# Altium schematic symbol library AltiumLibraries.SchLib: 537 symbols (part 1 of 5)
Pins are listed as number, name and electrical type; pins without a type are passive.

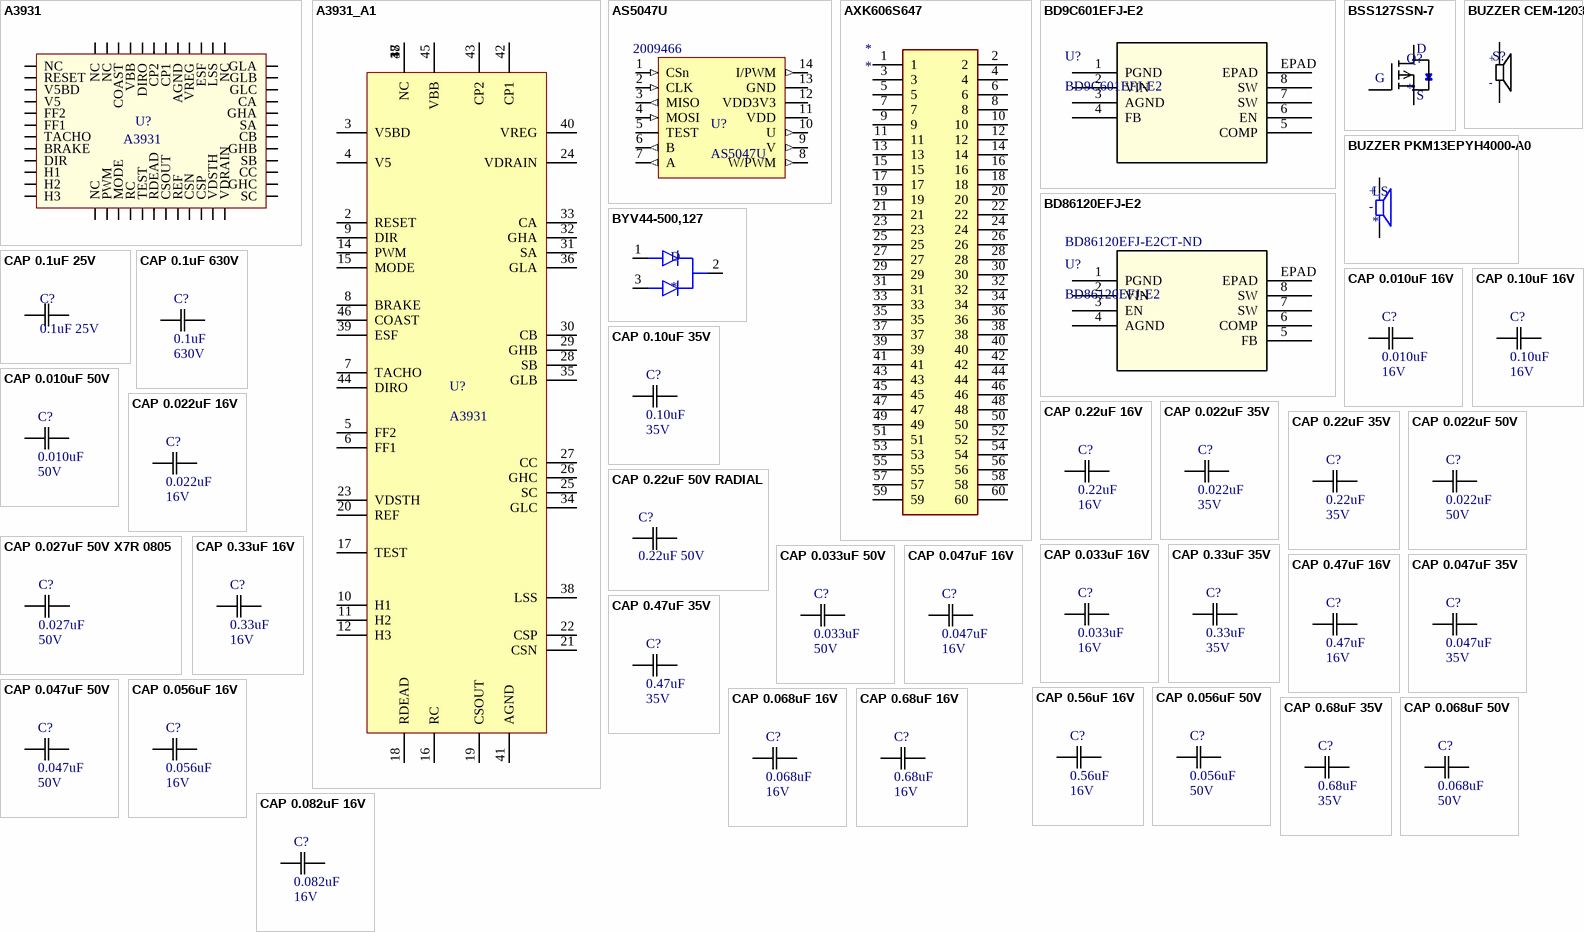
[diagram p0: symbols A3931 to CAP 0.082uF 16V]

## A3931
designator U?
IC MOTOR DRIVER 5.5V-50V 48LQFP; MF: Allegro MicroSystems; MP: A3931KJPTR-T; Rating: 5.5V ~ 50V; Digikey: 620-1290-1-ND; Price: 8.948 CAD; Digikey Link: https://www.digikey.com/product-detail/en/allegro-microsystems-llc/A3931KJPTR-T/620-1290-1-ND/2000021; Supplier 1: Digi-Key; Supplier Part Number 1: 620-1290-1-ND
footprint 48-LQFP-EP (7x7)
pins: 1 NC, 2 RESET, 3 V5BD, 4 V5, 5 FF2, 6 FF1, 7 TACHO, 8 BRAKE, 9 DIR, 10 H1, 11 H2, 12 H3, 13 NC, 14 PWM, 15 MODE, 16 RC, 17 TEST, 18 RDEAD, 19 CSOUT, 20 REF, 21 CSN, 22 CSP, 23 VDSTH, 24 VDRAIN, 25 SC, 26 GHC, 27 CC, 28 SB, 29 GHB, 30 CB, 31 SA, 32 GHA, 33 CA, 34 GLC, 35 GLB, 36 GLA, 37 NC, 38 LSS, 39 ESF, 40 VREG, 41 AGND, 42 CP1, 43 CP2, 44 DIRO, 45 VBB, 46 COAST, 47 NC, 48 NC

## A3931_A1
designator U?, comment A3931
IC MOTOR DRIVER 5.5V-50V 48LQFP - Alternative Symbol; Digikey: 620-1290-1-ND; Digikey Link: https://www.digikey.ca/product-detail/en/allegro-microsystems/A3931KJPTR-T/620-1290-1-ND/2000021; Supplier 1: Digi-Key; Supplier Part Number 1: 620-1290-1-ND
footprint 48-LQFP-EP (7x7)
pins: 1 NC, 2 RESET, 3 V5BD, 4 V5, 5 FF2, 6 FF1, 7 TACHO, 8 BRAKE, 9 DIR, 10 H1, 11 H2, 12 H3, 13, 14 PWM, 15 MODE, 16 RC, 17 TEST, 18 RDEAD, 19 CSOUT, 20 REF, 21 CSN, 22 CSP, 23 VDSTH, 24 VDRAIN, 25 SC, 26 GHC, 27 CC, 28 SB, 29 GHB, 30 CB, 31 SA, 32 GHA, 33 CA, 34 GLC, 35 GLB, 36 GLA, 37 NC, 38 LSS, 39 ESF, 40 VREG, 41 AGND, 42 CP1, 43 CP2, 44 DIRO, 45 VBB, 46 COAST, 47 NC, 48 NC

## AS5047U
designator U?  Supplier Part Number 1: 2009466
14-Bit On-Axis Magnetic Rotary Position Sensor with Up to 14-Bit Binary Incremental Pulse Count; Supplier 1: RSComponents
footprint AS5047U
pins: 1 CSn (in), 2 CLK (in), 3 MISO (out), 4 MOSI (in), 5 TEST, 6 B (out), 7 A (out), 8 W/PWM (out), 9 V (out), 10 U (out), 11 VDD, 12 VDD3V3, 13 GND, 14 I/PWM (out)

## AXK606S647
designator *
RS14100_WIFI_CONN
footprint AXK606S647 (RS14100_WIFI_CONN)
pins: 1, 2, 3, 4, 5, 6, 7, 8, 9, 10, 11, 12, 13, 14, 15, 16, 17, 18, 19, 20, 21, 22, 23, 24, 25, 26, 27, 28, 29, 30, 31, 32, 33, 34, 35, 36, 37, 38, 39, 40, 41, 42, 43, 44, 45, 46, 47, 48, 49, 50, 51, 52, 53, 54, 55, 56, 57, 58, 59, 60

## BD9C601EFJ-E2
designator U?
IC REG BUCK ADJ 6A 8HTSOP-J; Mfr_Name: ROHM Semiconductor; Copyright: Copyright (C) 2021 Ultra Librarian. All rights reserved.; Manufacturer_Part_Number: BD9C601EFJ-E2; Digi-Key_Part_Number_1: 846-1115-2-ND; Digi-Key_Part_Number_2: 846-1115-1-ND; Digi-Key_Part_Number_3: 846-1115-6-ND; RefDes: RefDes; Type: DEV; Supplier 1: Digi-Key; Supplier 2: Newark; Supplier 3: Avnet; Supplier 4: Farnell; Supplier Part Number 1: 846-1115-1-ND; Supplier Part Number 2: 53X2986; Supplier Part Number 3: BD9C601EFJ-E2; Supplier Part Number 4: 2420849
footprint HTSOP-J8_ROM-BD9C601EFJ-E2
pins: 1 PGND, 2 VIN, 3 AGND, 4 FB, 5 COMP, 6 EN, 7 SW, 8 SW, EPAD

## BD86120EFJ-E2
designator U?  Supplier Part Number 1: BD86120EFJ-E2CT-ND
IC REG BUCK ADJ 5A 8HTSOP-J; Mfr_Name: ROHM Semiconductor; Copyright: Copyright (C) 2021 Ultra Librarian. All rights reserved.; Manufacturer_Part_Number: BD86120EFJ-E2; Digi-Key_Part_Number_1: BD86120EFJ-E2TR-ND; Digi-Key_Part_Number_2: BD86120EFJ-E2CT-ND; Digi-Key_Part_Number_3: BD86120EFJ-E2DKR-ND; Digi-Key_Part_Number_4: BD86120EFJ-E2TR-NDL; RefDes: RefDes; Type: DEV; Supplier 1: Digi-Key
footprint HTSOP-J8_ROM
footprint HTSOP-J8_ROM-L
footprint HTSOP-J8_ROM-M
pins: 1 PGND, 2 VIN, 3 EN, 4 AGND, 5 FB, 6 COMP, 7 SW, 8 SW, EPAD

## BSS127SSN-7
designator Q?
Small Signal N-Ch, 600Vds; MFG: Diodes Incorporated; Supplier: Digikey; Supplier PN: BSS127SSN-7DICT-ND
footprint SOT95P245X89-3M (SOT23, 3-Leads, Body 2.90x2.45mm, Pitch 0.95mm, IPC Low Density)
pins: D, G, S

## BUZZER CEM-1203
designator S?  (value not drawn)
AUDIO MAGNETIC XDCR 3-5V TH; Current Rating: 35 mA @ 3.5 V; Frequency: 2.048 kHz @ 3.5 V; Decibels: 85 dB @ 3.5 V; ComponentLink1Description: Digikey Link; ComponentLink1URL: https://www.digikey.ca/products/en?keywords=CEM%201203%20buzzer; ComponentLink2Description: SnapEDA Link; ComponentLink2URL: https://www.snapeda.com/parts/CEM-1203%2842%29/CUI%20Devices/view-part/?ref=search&t=CEM%201203; Part Name: CEM-1203; Rated Voltage: 3-5 V; Supplier 1: Digi-Key; Supplier Part Number 1: 102-1153-ND
footprint CEM-1203 (2048 Hz Speaker)
pins: N, P
text: +; -

## BUZZER PKM13EPYH4000-A0
designator LS
Buzzers Transducer, Externally Driven Piezo 1.5V 4kHz 70dB @ 1.5V, 10cm Through Hole PC Pins; MF: Murata; MP: PKM13EPYH4000-A0; Arrow_Electronics-Purchase-URL: https://snapeda.com/shop?store=Arrow+Electronics&id=4970420; Value: *; SnapEDA_Link: https://www.snapeda.com/parts/PKM13EPYH4000-A0/Murata/view-part/4970420/?ref=snap; Package: Radial-2 Murata; Digikey Part: 490-4698-1-ND
footprint BUZZER PKM13EPYH4000-A0
pins: N, P
text: +; -

## BYV44-500,127
designator D
DIODE ARRAY GP 500V 30A TO220AB; MP: BYV44-500,127; MF: WeEn Semiconductors; Package: TO-220-3; Supplier 1: Digi-Key; Supplier Part Number 1: BYV44-500,127-ND
footprint to-220-3
pins: 1 ANODE1, 2 COMMON_CATHODE, 3 ANODE2

## CAP 0.1uF 25V
designator C?, comment 0.1uF 25V
CAP CER 0.1UF 25V X7R 0805/0603; Tolerance: 10%; Value: 0.1uF; Temperature Coefficient: X7R; Rating: 25V; Operating Temperature: -55°C ~ 125°C
footprint 0805
footprint 0603 (Chip Resistor, 2-Leads, Body 1.60x0.80mm, IPC High Density)
pins: 1 C1, 2 C2

## CAP 0.1uF 630V
designator C?, comment Rating: 630V  (hidden comment: 0.1uF)
CAP CER 0.1uF 630V X7R 1210; Tolerance: 10%; Package: 1210; Temperature Coefficient: X7R; Operating Temperature: -55°C ~ 125°C; Value: 0.1uF
footprint 1210
pins: 1 C1, 2 C2

## CAP 0.010uF 16V
designator C?, comment Rating: 16V  (hidden comment: 0.010uF)
CAP CER 0.010UF 16V X5R 0603/0805; Tolerance: 10%; Package: 0603/0805; Temperature Coefficient: X5R; Operating Temperature: -55°C ~ 85°C; Value: 0.010uF
footprint 0603
footprint 0805
pins: 1 C1, 2 C2

## CAP 0.10uF 16V
designator C?, comment Rating: 16V  (hidden comment: 0.10uF)
CAP CER 0.10UF 16V X5R 0603/0805; Tolerance: 10%; Package: 0603/0805; Temperature Coefficient: X5R; Operating Temperature: -55°C ~ 85°C; Value: 0.10uF
footprint 0603
footprint 0805
pins: 1 C1, 2 C2

## CAP 0.10uF 35V
designator C?, comment Rating: 35V  (hidden comment: 0.10uF)
CAP CER 0.10UF 35V X7R 0603/0805; Tolerance: 10%; Package: 0603/0805; Temperature Coefficient: X7R; Operating Temperature: -55°C ~ 125°C; Value: 0.10uF
footprint 0603
footprint 0805
pins: 1 C1, 2 C2

## CAP 0.010uF 50V
designator C?, comment Rating: 50V  (hidden comment: 0.010uF)
CAP CER 0.010UF 50V X7R 0603/0805; Tolerance: 10%; Package: 0603/0805; Temperature Coefficient: X7R; Operating Temperature: -55°C ~ 125°C; Value: 0.010uF
footprint 0603
footprint 0805
pins: 1 C1, 2 C2

## CAP 0.022uF 16V
designator C?, comment Rating: 16V  (hidden comment: 0.022uF)
CAP CER 0.022UF 16V X5R 0603/0805; Tolerance: 10%; Package: 0603/0805; Temperature Coefficient: X5R; Operating Temperature: -55°C ~ 85°C; Value: 0.022uF
footprint 0603
footprint 0805
pins: 1 C1, 2 C2

## CAP 0.22uF 16V
designator C?, comment Rating: 16V  (hidden comment: 0.22uF)
CAP CER 0.22UF 16V X5R 0603/0805; Tolerance: 10%; Package: 0603/0805; Temperature Coefficient: X5R; Operating Temperature: -55°C ~ 85°C; Value: 0.22uF
footprint 0603
footprint 0805
pins: 1 C1, 2 C2

## CAP 0.022uF 35V
designator C?, comment Rating: 35V  (hidden comment: 0.022uF)
CAP CER 0.022UF 35V X7R 0603/0805; Tolerance: 10%; Package: 0603/0805; Temperature Coefficient: X7R; Operating Temperature: -55°C ~ 125°C; Value: 0.022uF
footprint 0603
footprint 0805
pins: 1 C1, 2 C2

## CAP 0.22uF 35V
designator C?, comment Rating: 35V  (hidden comment: 0.22uF)
CAP CER 0.22UF 35V X7R 0603/0805; Tolerance: 10%; Package: 0603/0805; Temperature Coefficient: X7R; Operating Temperature: -55°C ~ 125°C; Value: 0.22uF
footprint 0603
footprint 0805
pins: 1 C1, 2 C2

## CAP 0.022uF 50V
designator C?, comment Rating: 50V  (hidden comment: 0.022uF)
CAP CER 0.022UF 50V X7R 0603/0805; Tolerance: 10%; Package: 0603/0805; Temperature Coefficient: X7R; Operating Temperature: -55°C ~ 125°C; Value: 0.022uF
footprint 0603
footprint 0805
pins: 1 C1, 2 C2

## CAP 0.22uF 50V RADIAL
designator C?, comment 0.22uF 50V
CAP CER 0.22UF 50V X7R RADIAL; Tolerance: 10%; Package: Through Hole Radial; Value: 0.22 uF; Rating: 50V; ComponentLink1Description: digikey; ComponentLink1URL: https://www.digikey.ca/product-detail/en/kemet/C317C221K2G5TA7301/399-13974-1-ND/6562545; Temperature coefficient: X7R; Dimensions: 0.200" L x 0.125" W (5.08mm x 3.18mm); Operating temperature: -55°C ~ 125°C
footprint 0.22uF Thru hole
pins: 1 C1, 2 C2

## CAP 0.027uF 50V X7R 0805
designator C?, comment 0.027uF  Rating: 50V
CAP CER 0.027UF 50V X7R 0805; Tolerance: 5%; Package: 0805; Temperature Coefficient: X7R; Operating Temperature: -55°C ~ 125°C; Value: 0.027uF
footprint 0805
pins: 1, 2

## CAP 0.033uF 16V
designator C?, comment Rating: 16V  (hidden comment: 0.033uF)
CAP CER 0.033UF 16V X5R 0603/0805; Tolerance: 10%; Package: 0603/0805; Temperature Coefficient: X5R; Operating Temperature: -55°C ~ 85°C; Value: 0.033uF
footprint 0603
footprint 0805
pins: 1 C1, 2 C2

## CAP 0.33uF 16V
designator C?, comment Rating: 16V  (hidden comment: 0.33uF)
CAP CER 0.33UF 16V X5R 0603/0805; Tolerance: 10%; Package: 0603/0805; Temperature Coefficient: X5R; Operating Temperature: -55°C ~ 85°C; Value: 0.33uF
footprint 0603
footprint 0805
pins: 1 C1, 2 C2

## CAP 0.33uF 35V
designator C?, comment Rating: 35V  (hidden comment: 0.33uF)
CAP CER 0.33UF 35V X7R 0603/0805; Tolerance: 10%; Package: 0603/0805; Temperature Coefficient: X7R; Operating Temperature: -55°C ~ 125°C; Value: 0.33uF
footprint 0603
footprint 0805
pins: 1 C1, 2 C2

## CAP 0.033uF 50V
designator C?, comment Rating: 50V  (hidden comment: 0.033uF)
CAP CER 0.033UF 50V X7R 0603/0805; Tolerance: 10%; Package: 0603/0805; Temperature Coefficient: X7R; Operating Temperature: -55°C ~ 125°C; Value: 0.033uF
footprint 0603
footprint 0805
pins: 1 C1, 2 C2

## CAP 0.047uF 16V
designator C?, comment Rating: 16V  (hidden comment: 0.047uF)
CAP CER 0.047UF 16V X5R 0603/0805; Tolerance: 10%; Package: 0603/0805; Temperature Coefficient: X5R; Operating Temperature: -55°C ~ 85°C; Value: 0.047uF
footprint 0603
footprint 0805
pins: 1 C1, 2 C2

## CAP 0.47uF 16V
designator C?, comment Rating: 16V  (hidden comment: 0.47uF)
CAP CER 0.47UF 16V X5R 0603/0805; Tolerance: 10%; Package: 0603/0805; Temperature Coefficient: X5R; Operating Temperature: -55°C ~ 85°C; Value: 0.47uF
footprint 0603
footprint 0805
pins: 1 C1, 2 C2

## CAP 0.047uF 35V
designator C?, comment Rating: 35V  (hidden comment: 0.047uF)
CAP CER 0.047UF 35V X7R 0603/0805; Tolerance: 10%; Package: 0603/0805; Temperature Coefficient: X7R; Operating Temperature: -55°C ~ 125°C; Value: 0.047uF
footprint 0603
footprint 0805
pins: 1 C1, 2 C2

## CAP 0.47uF 35V
designator C?, comment Rating: 35V  (hidden comment: 0.47uF)
CAP CER 0.47UF 35V X7R 0603/0805; Tolerance: 10%; Package: 0603/0805; Temperature Coefficient: X7R; Operating Temperature: -55°C ~ 125°C; Value: 0.47uF
footprint 0603
footprint 0805
pins: 1 C1, 2 C2

## CAP 0.047uF 50V
designator C?, comment Rating: 50V  (hidden comment: 0.047uF)
CAP CER 0.047UF 50V X7R 0603/0805; Tolerance: 10%; Package: 0603/0805; Temperature Coefficient: X7R; Operating Temperature: -55°C ~ 125°C; Value: 0.047uF
footprint 0603
footprint 0805
pins: 1 C1, 2 C2

## CAP 0.056uF 16V
designator C?, comment Rating: 16V  (hidden comment: 0.056uF)
CAP CER 0.056UF 16V X5R 0603; Tolerance: 10%; Package: 0603; Temperature Coefficient: X5R; Operating Temperature: -55°C ~ 85°C; Value: 0.056uF
footprint 0603
pins: 1 C1, 2 C2

## CAP 0.56uF 16V
designator C?, comment Rating: 16V  (hidden comment: 0.56uF)
CAP CER 0.56UF 16V X5R 0805; Tolerance: 10%; Package: 0805; Temperature Coefficient: X5R; Operating Temperature: -55°C ~ 85°C; Value: 0.56uF
footprint 0805
pins: 1 C1, 2 C2

## CAP 0.056uF 50V
designator C?, comment Rating: 50V  (hidden comment: 0.056uF)
CAP CER 0.056UF 50V X7R 0603/0805; Tolerance: 10%; Package: 0603/0805; Temperature Coefficient: X7R; Operating Temperature: -55°C ~ 125°C; Value: 0.056uF
footprint 0603
footprint 0805
pins: 1 C1, 2 C2

## CAP 0.068uF 16V
designator C?, comment Rating: 16V  (hidden comment: 0.068uF)
CAP CER 0.068UF 16V X5R 0603/0805; Tolerance: 10%; Package: 0603/0805; Temperature Coefficient: X5R; Operating Temperature: -55°C ~ 85°C; Value: 0.068uF
footprint 0603
footprint 0805
pins: 1 C1, 2 C2

## CAP 0.68uF 16V
designator C?, comment Rating: 16V  (hidden comment: 0.68uF)
CAP CER 0.68UF 16V X5R 0603/0805; Tolerance: 10%; Package: 0603/0805; Temperature Coefficient: X5R; Operating Temperature: -55°C ~ 85°C; Value: 0.68uF
footprint 0603
footprint 0805
pins: 1 C1, 2 C2

## CAP 0.68uF 35V
designator C?, comment Rating: 35V  (hidden comment: 0.68uF)
CAP CER 0.68UF 35V X7R 0603/0805; Tolerance: 10%; Package: 0603/0805; Temperature Coefficient: X7R; Operating Temperature: -55°C ~ 125°C; Value: 0.68uF
footprint 0603
footprint 0805
pins: 1 C1, 2 C2

## CAP 0.068uF 50V
designator C?, comment Rating: 50V  (hidden comment: 0.068uF)
CAP CER 0.068UF 50V X7R 0603/0805; Tolerance: 10%; Package: 0603/0805; Temperature Coefficient: X7R; Operating Temperature: -55°C ~ 125°C; Value: 0.068uF
footprint 0603
footprint 0805
pins: 1 C1, 2 C2

## CAP 0.082uF 16V
designator C?, comment Rating: 16V  (hidden comment: 0.082uF)
CAP CER 0.082UF 16V X5R 0603; Tolerance: 10%; Package: 0603; Temperature Coefficient: X5R; Operating Temperature: -55°C ~ 85°C; Value: 0.082uF
footprint 0603
pins: 1 C1, 2 C2

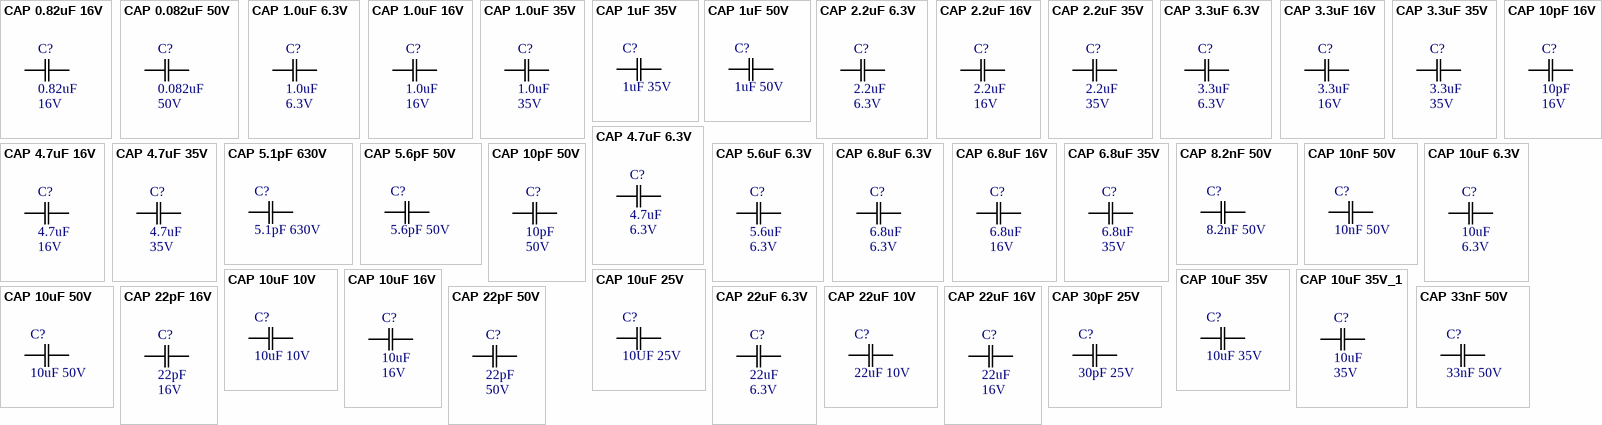
[diagram p1: symbols CAP 0.82uF 16V to CAP 33nF 50V]

## CAP 0.82uF 16V
designator C?, comment Rating: 16V  (hidden comment: 0.82uF)
CAP CER 0.82UF 16V X5R 0805; Tolerance: 10%; Package: 0805; Temperature Coefficient: X5R; Operating Temperature: -55°C ~ 85°C; Value: 0.82uF
footprint 0805
pins: 1 C1, 2 C2

## CAP 0.082uF 50V
designator C?, comment Rating: 50V  (hidden comment: 0.082uF)
CAP CER 0.082UF 50V X7R 0603/0805; Tolerance: 10%; Package: 0603/0805; Temperature Coefficient: X7R; Operating Temperature: -55°C ~ 125°C; Value: 0.082uF
footprint 0603
footprint 0805
pins: 1 C1, 2 C2

## CAP 1.0uF 6.3V
designator C?, comment Rating: 6.3V  (hidden comment: 1.0uF)
CAP CER 1.0UF 6.3V X5R 0603/0805; Tolerance: 10%; Package: 0603/0805; Temperature Coefficient: X5R; Operating Temperature: -55°C ~ 85°C; Value: 1.0uF
footprint 0603
footprint 0805
pins: 1 C1, 2 C2

## CAP 1.0uF 16V
designator C?, comment Rating: 16V  (hidden comment: 1.0uF)
CAP CER 1.0UF 16V X5R 0603/0805; Tolerance: 10%; Package: 0603/0805; Temperature Coefficient: X5R; Operating Temperature: -55°C ~ 85°C; Value: 1.0uF
footprint 0603
footprint 0805
pins: 1 C1, 2 C2

## CAP 1.0uF 35V
designator C?, comment Rating: 35V  (hidden comment: 1.0uF)
CAP CER 1.0UF 35V X7R 0603/0805; Tolerance: 10%; Package: 0603/0805; Temperature Coefficient: X7R; Operating Temperature: -55°C ~ 125°C; Value: 1.0uF
footprint 0603
footprint 0805
pins: 1 C1, 2 C2

## CAP 1uF 35V
designator C?, comment 1uF 35V
CAP CER 1UF 35V X7R 0805; Tolerance: 10%; Package: 0805; Value: 1uF; Rating: 35V; Temperature Coefficient: X7R; Operating Temperature: -55°C ~ 125°C
footprint 0805
footprint 0603 (Chip Resistor, 2-Leads, Body 1.60x0.80mm, IPC High Density)
pins: 1 C1, 2 C2

## CAP 1uF 50V
designator C?, comment 1uF 50V
CAP CER 1UF 50V X7R 0805; Tolerance: 10%; Package: 0805; Value: 1uF; Rating: 50V; Temperature Coefficient: X7R; Operating Temperature: -55°C ~ 125°C
footprint 0805
footprint 0603 (Chip Resistor, 2-Leads, Body 1.60x0.80mm, IPC High Density)
pins: 1 C1, 2 C2

## CAP 2.2uF 6.3V
designator C?, comment Rating: 6.3V  (hidden comment: 2.2uF)
CAP CER 2.2UF 6.3V X5R 0603/0805; Tolerance: 10%; Package: 0603/0805; Temperature Coefficient: X5R; Operating Temperature: -55°C ~ 85°C; Value: 2.2uF
footprint 0603
footprint 0805
pins: 1 C1, 2 C2

## CAP 2.2uF 16V
designator C?, comment Rating: 16V  (hidden comment: 2.2uF)
CAP CER 2.2UF 16V X5R 0603/0805; Tolerance: 10%; Package: 0603/0805; Temperature Coefficient: X5R; Operating Temperature: -55°C ~ 85°C; Value: 2.2uF
footprint 0603
footprint 0805
pins: 1 C1, 2 C2

## CAP 2.2uF 35V
designator C?, comment Rating: 35V  (hidden comment: 2.2uF)
CAP CER 2.2UF 35V X7R 0603/0805; Tolerance: 10%; Package: 0603/0805; Temperature Coefficient: X7R; Operating Temperature: -55°C ~ 125°C; Value: 2.2uF
footprint 0603
footprint 0805
pins: 1 C1, 2 C2

## CAP 3.3uF 6.3V
designator C?, comment Rating: 6.3V  (hidden comment: 3.3uF)
CAP CER 3.3UF 6.3V X5R 0603/0805; Tolerance: 10%; Package: 0603/0805; Temperature Coefficient: X5R; Operating Temperature: -55°C ~ 85°C; Value: 3.3uF
footprint 0603
footprint 0805
pins: 1 C1, 2 C2

## CAP 3.3uF 16V
designator C?, comment Rating: 16V  (hidden comment: 3.3uF)
CAP CER 3.3UF 16V X5R 0603/0805; Tolerance: 10%; Package: 0603/0805; Temperature Coefficient: X5R; Operating Temperature: -55°C ~ 85°C; Value: 3.3uF
footprint 0603
footprint 0805
pins: 1 C1, 2 C2

## CAP 3.3uF 35V
designator C?, comment Rating: 35V  (hidden comment: 3.3uF)
CAP CER 3.3UF 35V X7R 0603/0805; Tolerance: 10%; Package: 0603/0805; Temperature Coefficient: X7R; Operating Temperature: -55°C ~ 125°C; Value: 3.3uF
footprint 0603
footprint 0805
pins: 1 C1, 2 C2

## CAP 4.7uF 6.3V
designator C?, comment Rating: 6.3V  (hidden comment: 4.7uF)
CAP CER 4.7UF 6.3V X5R 0603/0805; Tolerance: 10%; Package: 0603/0805; Temperature Coefficient: X5R; Operating Temperature: -55°C ~ 85°C; Value: 4.7uF
footprint 0603
footprint 0805
pins: 1 C1, 2 C2

## CAP 4.7uF 16V
designator C?, comment Rating: 16V  (hidden comment: 4.7uF)
CAP CER 4.7UF 16V X5R 0603/0805; Tolerance: 10%; Package: 0603/0805; Temperature Coefficient: X5R; Operating Temperature: -55°C ~ 85°C; Value: 4.7uF
footprint 0603
footprint 0805
pins: 1 C1, 2 C2

## CAP 4.7uF 35V
designator C?, comment Rating: 35V  (hidden comment: 4.7uF)
CAP CER 4.7UF 35V X7R 0603/0805; Tolerance: 10%; Package: 0603/0805; Temperature Coefficient: X7R; Operating Temperature: -55°C ~ 125°C; Value: 4.7uF
footprint 0603
footprint 0805
pins: 1 C1, 2 C2

## CAP 5.1pF 630V
designator C?, comment 5.1pF 630V
CAP CER 5.1PF 630V C0G/NP0 0805; Tolerance: 10%; Rating: 50V; Package: 0805; Value: 5.1pF; Temperature Coefficient: C0G/NP0; Operating Temperature: -55°C ~ 125°C
footprint 0805
pins: 1 C1, 2 C2

## CAP 5.6pF 50V
designator C?, comment 5.6pF 50V
CAP CER 5.6PF 50V C0G/NP0 0805; Tolerance: 5%; Package: 0805; Value: 5.6pF; Rating: 50V; Temperature Coefficient: C0G/NP0; Operating Temperature: -55°C ~ 125°C
footprint 0805
footprint 0603 (Chip Resistor, 2-Leads, Body 1.60x0.80mm, IPC High Density)
pins: 1 C1, 2 C2

## CAP 5.6uF 6.3V
designator C?, comment Rating: 6.3V  (hidden comment: 5.6uF)
CAP CER 5.6UF 6.3V X5R 0805; Tolerance: 10%; Package: 0805; Temperature Coefficient: X5R; Operating Temperature: -55°C ~ 85°C; Value: 5.6uF
footprint 0805
pins: 1 C1, 2 C2

## CAP 6.8uF 6.3V
designator C?, comment Rating: 6.3V  (hidden comment: 6.8uF)
CAP CER 6.8UF 6.3V X5R 0603/0805; Tolerance: 10%; Package: 0603/0805; Temperature Coefficient: X5R; Operating Temperature: -55°C ~ 85°C; Value: 6.8uF
footprint 0603
footprint 0805
pins: 1 C1, 2 C2

## CAP 6.8uF 16V
designator C?, comment Rating: 16V  (hidden comment: 6.8uF)
CAP CER 6.8UF 16V X5R 0603/0805; Tolerance: 10%; Package: 0603/0805; Temperature Coefficient: X5R; Operating Temperature: -55°C ~ 85°C; Value: 6.8uF
footprint 0603
footprint 0805
pins: 1 C1, 2 C2

## CAP 6.8uF 35V
designator C?, comment Rating: 35V  (hidden comment: 6.8uF)
CAP CER 6.8UF 35V X7R 0805; Tolerance: 10%; Package: 0805; Temperature Coefficient: X7R; Operating Temperature: -55°C ~ 125°C; Value: 6.8uF
footprint 0805
pins: 1 C1, 2 C2

## CAP 8.2nF 50V
designator C?, comment 8.2nF 50V
CAP CER 8200PF 50V X7R 0805; Tolerance: 10%; Package: 0805; Value: 8.2nF; Rating: 50V; Temperature Coefficient: X7R; Operating Temperature: -55°C ~ 125°C
footprint 0805
pins: 1 C1, 2 C2

## CAP 10nF 50V
designator C?, comment 10nF 50V
CAP CER 10000PF 50V X7R 0805; Tolerance: 10%; Package: 0805; Value: 10nF; Rating: 50V; Temperature Coefficient: X7R; Operating Temperature: -55°C ~ 125°C
footprint 0805
footprint 0603 (Chip Resistor, 2-Leads, Body 1.60x0.80mm, IPC High Density)
pins: 1 C1, 2 C2

## CAP 10pF 16V
designator C?, comment Rating: 16V  (hidden comment: 10pF)
CAP CER 10PF 16V X5R 0603; Tolerance: 10%; Package: 0603; Temperature Coefficient: X5R; Operating Temperature: -55°C ~ 85°C; Value: 10pF
footprint 0603
pins: 1 C1, 2 C2

## CAP 10pF 50V
designator C?, comment Rating: 50V  (hidden comment: 10pF)
CAP CER 10PF 50V X7R 0603/0805; Tolerance: 10%; Package: 0603/0805; Temperature Coefficient: X7R; Operating Temperature: -55°C ~ 125°C; Value: 10pF
footprint 0603
footprint 0805
pins: 1 C1, 2 C2

## CAP 10uF 6.3V
designator C?, comment Rating: 6.3V  (hidden comment: 10uF)
CAP CER 10UF 6.3V X5R 0603/0805; Tolerance: 10%; Package: 0603/0805; Temperature Coefficient: X5R; Operating Temperature: -55°C ~ 85°C; Value: 10uF
footprint 0603
footprint 0805
pins: 1 C1, 2 C2

## CAP 10uF 10V
designator C?, comment 10uF 10V
CAP CER 10UF 10V X5R 0805; Tolerance: 10%; Package: 0805; Value: 10uF; Rating: 10V
footprint 0805
footprint 0603 (Chip Resistor, 2-Leads, Body 1.60x0.80mm, IPC High Density)
pins: 1 C1, 2 C2

## CAP 10uF 16V
designator C?, comment Rating: 16V  (hidden comment: 10uF)
CAP CER 10UF 16V X5R 0603/0805; Tolerance: 10%; Package: 0603/0805; Temperature Coefficient: X5R; Operating Temperature: -55°C ~ 85°C; Value: 10uF
footprint 0603
footprint 0805
pins: 1 C1, 2 C2

## CAP 10uF 25V
designator C?, comment 10UF 25V
CAP CER 10UF 25V X5R 1206; Tolerance: 10%; Package: 1206; Value: 10uF; Rating: 25V; Temperature Coefficient: X5R; Operating Temperature: -55°C ~ 85°C
footprint 1206
pins: 1 C1, 2 C2

## CAP 10uF 35V
designator C?, comment 10uF 35V
CAP CER 10uF 35V X5R 1206; Tolerance: 10%; Package: 1206; Value: 10uF; Rating: 35V; Temperature Coefficient: X5R; Operating Temperature: -55°C ~ 85°C
footprint 1206
pins: 1 C1, 2 C2

## CAP 10uF 35V_1
designator C?, comment Rating: 35V  (hidden comment: 10uF)
CAP CER 10UF 35V X7R 0603/0805; Tolerance: 10%; Package: 0805; Temperature Coefficient: X7R; Operating Temperature: -55°C ~ 125°C; Value: 10uF
footprint 0805
footprint 0603 (Chip Resistor, 2-Leads, Body 1.60x0.80mm, IPC High Density)
pins: 1 C1, 2 C2

## CAP 10uF 50V
designator C?, comment 10uF 50V
CAP CER 10UF 50V X7R; Tolerance: 10%; Package: 1210; Value: 10uF; Rating: 50V; ComponentLink1Description: digikey; ComponentLink1URL: https://www.digikey.ca/en/products/detail/kemet/C1210C106M5RACTU/4918883
footprint 1210
footprint 0805
pins: 1 C1, 2 C2

## CAP 22pF 16V
designator C?, comment Rating: 16V  (hidden comment: 22pF)
CAP CER 22PF 16V X5R 0603; Tolerance: 10%; Package: 0603; Temperature Coefficient: X5R; Operating Temperature: -55°C ~ 85°C; Value: 22pF
footprint 0603
pins: 1 C1, 2 C2

## CAP 22pF 50V
designator C?, comment Rating: 50V  (hidden comment: 22pF)
CAP CER 22PF 50V X7R 0603/0805; Tolerance: 10%; Package: 0603/0805; Temperature Coefficient: X7R; Operating Temperature: -55°C ~ 125°C; Value: 22pF
footprint 0603
footprint 0805
pins: 1 C1, 2 C2

## CAP 22uF 6.3V
designator C?, comment Rating: 6.3V  (hidden comment: 22uF)
CAP CER 22UF 6.3V X5R 0603/0805; Tolerance: 10%; Package: 0603/0805; Temperature Coefficient: X5R; Operating Temperature: -55°C ~ 85°C; Value: 22uF
footprint 0603
footprint 0805
pins: 1 C1, 2 C2

## CAP 22uF 10V
designator C?, comment 22uF 10V
CAP CER 2.2UF 10V X5R 0805; Tolerance: 20%; Package: 0805; Value: 22uF; Rating: 10V; Temperature Coefficient: X5R; Operating Temperature: -55°C ~ 85°C
footprint 0805
pins: 1 C1, 2 C2

## CAP 22uF 16V
designator C?, comment Rating: 16V  (hidden comment: 22uF)
CAP CER 22UF 16V X5R 0805; Tolerance: 10%; Package: 0805; Temperature Coefficient: X5R; Operating Temperature: -55°C ~ 85°C; Value: 22uF
footprint 0805
pins: 1 C1, 2 C2

## CAP 30pF 25V
designator C?, comment 30pF 25V
CAP CER 30PF 25V NP0 0805; Tolerance: 20%; Package: 0805; Value: 30pF; Rating: 25V
footprint 0805
footprint 0603 (Chip Resistor, 2-Leads, Body 1.60x0.80mm, IPC High Density)
pins: 1 C1, 2 C2

## CAP 33nF 50V
designator C?, comment 33nF 50V
CAP CER 0.033UF 50V X7R 0805; Tolerance: 5%; Package: 0805; Value: 33nF; Rating: 50V; Alt. Value: 33nF
footprint 0805
pins: 1 C1, 2 C2

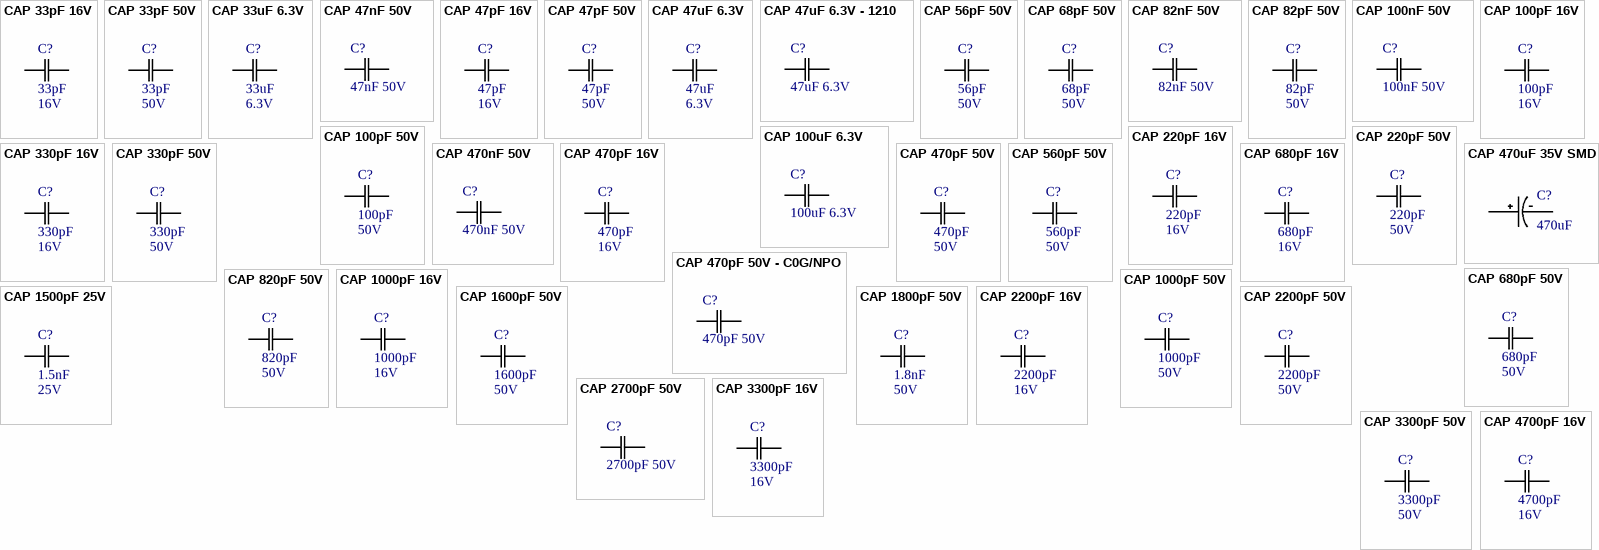
[diagram p2: symbols CAP 33pF 16V to CAP 4700pF 16V]

## CAP 33pF 16V
designator C?, comment Rating: 16V  (hidden comment: 33pF)
CAP CER 33PF 16V X5R 0603; Tolerance: 10%; Package: 0603; Temperature Coefficient: X5R; Operating Temperature: -55°C ~ 85°C; Value: 33pF
footprint 0603
pins: 1 C1, 2 C2

## CAP 33pF 50V
designator C?, comment Rating: 50V  (hidden comment: 33pF)
CAP CER 33PF 50V X7R 0603/0805; Tolerance: 10%; Package: 0603/0805; Temperature Coefficient: X7R; Operating Temperature: -55°C ~ 125°C; Value: 33pF
footprint 0603
footprint 0805
pins: 1 C1, 2 C2

## CAP 33uF 6.3V
designator C?, comment Rating: 6.3V  (hidden comment: 33uF)
CAP CER 33UF 6.3V X5R 0805; Tolerance: 10%; Package: 0805; Temperature Coefficient: X5R; Operating Temperature: -55°C ~ 85°C; Value: 33uF
footprint 0805
pins: 1 C1, 2 C2

## CAP 47nF 50V
designator C?, comment 47nF 50V
CAP CER 0.047UF 50V X7R 0805; Tolerance: 5%; Package: 0805; Value: 47nF; Rating: 50V; Alt. Value: 47nF
footprint 0805
pins: 1 C1, 2 C2

## CAP 47pF 16V
designator C?, comment Rating: 16V  (hidden comment: 47pF)
CAP CER 47PF 16V X5R 0603/0805; Tolerance: 10%; Package: 0603/0805; Temperature Coefficient: X5R; Operating Temperature: -55°C ~ 85°C; Value: 47pF
footprint 0603
footprint 0805
pins: 1 C1, 2 C2

## CAP 47pF 50V
designator C?, comment Rating: 50V  (hidden comment: 47pF)
CAP CER 47PF 50V X7R 0603/0805; Tolerance: 10%; Package: 0603/0805; Temperature Coefficient: X7R; Operating Temperature: -55°C ~ 125°C; Value: 47pF
footprint 0603
footprint 0805
pins: 1 C1, 2 C2

## CAP 47uF 6.3V
designator C?, comment Rating: 6.3V  (hidden comment: 47uF)
CAP CER 47UF 6.3V X5R 0603/0805; Tolerance: 20%; Package: 0603/0805; Temperature Coefficient: X5R; Operating Temperature: -55°C ~ 85°C; Value: 47uF
footprint 0603
footprint 0805
pins: 1 C1, 2 C2

## CAP 47uF 6.3V - 1210
designator C?, comment 47uF 6.3V
CAP CER 47UF 6.3V X7R 1210; Tolerance: 10%; Package: 1210; Value: 47uF; Rating: 6.3V; ComponentLink1Description: digikey; ComponentLink1URL: https://www.digikey.ca/en/products/detail/kemet/C1210C106M5RACTU/4918883
footprint 1210
pins: 1 C1, 2 C2

## CAP 56pF 50V
designator C?, comment Rating: 50V  (hidden comment: 56pF)
CAP CER 56PF 50V X7R 0603/0805; Tolerance: 10%; Package: 0603/0805; Temperature Coefficient: X7R; Operating Temperature: -55°C ~ 125°C; Value: 56pF
footprint 0603
footprint 0805
pins: 1 C1, 2 C2

## CAP 68pF 50V
designator C?, comment Rating: 50V  (hidden comment: 68pF)
CAP CER 68PF 50V X7R 0603/0805; Tolerance: 10%; Package: 0603/0805; Temperature Coefficient: X7R; Operating Temperature: -55°C ~ 125°C; Value: 68pF
footprint 0603
footprint 0805
pins: 1 C1, 2 C2

## CAP 82nF 50V
designator C?, comment 82nF 50V
CAP CER 0.082UF 50V X7R 0805; Tolerance: 5%; Package: 0805; Value: 82nF; Rating: 50V; Alt. Value: 82nF
footprint 0805
footprint 0603 (Chip Resistor, 2-Leads, Body 1.60x0.80mm, IPC High Density)
pins: 1 C1, 2 C2

## CAP 82pF 50V
designator C?, comment Rating: 50V  (hidden comment: 82pF)
CAP CER 82PF 50V X7R 0603/0805; Tolerance: 10%; Package: 0603/0805; Temperature Coefficient: X7R; Operating Temperature: -55°C ~ 125°C; Value: 82pF
footprint 0603
footprint 0805
pins: 1 C1, 2 C2

## CAP 100nF 50V
designator C?, comment 100nF 50V
CAP CER 0.1UF 50V X7R 0805; Tolerance: 10%; Package: 0805; Value: 100nF; Rating: 50V
footprint 0805
footprint 0603 (Chip Resistor, 2-Leads, Body 1.60x0.80mm, IPC High Density)
pins: 1 C1, 2 C2

## CAP 100pF 16V
designator C?, comment Rating: 16V  (hidden comment: 100pF)
CAP CER 100PF 16V X5R 0603/0805; Tolerance: 10%; Package: 0603/0805; Temperature Coefficient: X5R; Operating Temperature: -55°C ~ 85°C; Value: 100pF
footprint 0603
footprint 0805
pins: 1 C1, 2 C2

## CAP 100pF 50V
designator C?, comment Rating: 50V  (hidden comment: 100pF)
CAP CER 100PF 50V X7R 0603/0805; Tolerance: 10%; Package: 0603/0805; Temperature Coefficient: X7R; Operating Temperature: -55°C ~ 125°C; Value: 100pF
footprint 0603
footprint 0805
pins: 1 C1, 2 C2

## CAP 100uF 6.3V
designator C?, comment 100uF 6.3V
CAP CER 100UF 6.3V X5R 1206; Tolerance: 20%; Package: 1206; Value: 100uF; Rating: 6.3V
footprint 1206
pins: 1 C1, 2 C2

## CAP 220pF 16V
designator C?, comment Rating: 16V  (hidden comment: 220pF)
CAP CER 220PF 16V X5R 0603/0805; Tolerance: 10%; Package: 0603/0805; Temperature Coefficient: X5R; Operating Temperature: -55°C ~ 85°C; Value: 220pF
footprint 0603
footprint 0805
pins: 1 C1, 2 C2

## CAP 220pF 50V
designator C?, comment Rating: 50V  (hidden comment: 220pF)
CAP CER 220PF 50V X7R 0603/0805; Tolerance: 10%; Package: 0603/0805; Temperature Coefficient: X7R; Operating Temperature: -55°C ~ 125°C; Value: 220pF
footprint 0603
footprint 0805
pins: 1 C1, 2 C2

## CAP 330pF 16V
designator C?, comment Rating: 16V  (hidden comment: 330pF)
CAP CER 330PF 16V X5R 0603/0805; Tolerance: 10%; Package: 0603/0805; Temperature Coefficient: X5R; Operating Temperature: -55°C ~ 85°C; Value: 330pF
footprint 0603
footprint 0805
pins: 1 C1, 2 C2

## CAP 330pF 50V
designator C?, comment Rating: 50V  (hidden comment: 330pF)
CAP CER 330PF 50V X7R 0603/0805; Tolerance: 10%; Package: 0603/0805; Temperature Coefficient: X7R; Operating Temperature: -55°C ~ 125°C; Value: 330pF
footprint 0603
footprint 0805
pins: 1 C1, 2 C2

## CAP 470nF 50V
designator C?, comment 470nF 50V
CAP CER 0.1UF 50V X7R 0805; Tolerance: 10%; Package: 0805; Value: 470nF; Rating: 50V
footprint 0805
footprint 0603 (Chip Resistor, 2-Leads, Body 1.60x0.80mm, IPC High Density)
pins: 1 C1, 2 C2

## CAP 470pF 16V
designator C?, comment Rating: 16V  (hidden comment: 470pF)
CAP CER 470PF 16V X5R 0603/0805; Tolerance: 10%; Package: 0603/0805; Temperature Coefficient: X5R; Operating Temperature: -55°C ~ 85°C; Value: 470pF
footprint 0603
footprint 0805
pins: 1 C1, 2 C2

## CAP 470pF 50V
designator C?, comment Rating: 50V  (hidden comment: 470pF)
CAP CER 470PF 50V X7R 0603/0805; Tolerance: 10%; Package: 0603/0805; Temperature Coefficient: X7R; Operating Temperature: -55°C ~ 125°C; Value: 470pF
footprint 0603
footprint 0805
pins: 1 C1, 2 C2

## CAP 470pF 50V - C0G/NPO
designator C?, comment 470pF 50V
CAP CER 470PF 50V C0G/NPO 0805; Tolerance: 5%; Package: 0805; Value: 470pF; Rating: 50V
footprint 0805
pins: 1 C1, 2 C2

## CAP 470uF 35V SMD
designator C?, comment 470uF
470µF 35V Aluminum Electrolytic Capacitors Radial, Can - SMD 5000 Hrs @ 105°C; MP: EEV-FK1V471Q; MF: Panasonic Electronic; Price: None; Package: Radial Panasonic Electronic
footprint Radial, Can - SMD
pins: NEG, POS

## CAP 560pF 50V
designator C?, comment Rating: 50V  (hidden comment: 560pF)
CAP CER 560PF 50V X7R 0603/0805; Tolerance: 10%; Package: 0603/0805; Temperature Coefficient: X7R; Operating Temperature: -55°C ~ 125°C; Value: 560pF
footprint 0603
footprint 0805
pins: 1 C1, 2 C2

## CAP 680pF 16V
designator C?, comment Rating: 16V  (hidden comment: 680pF)
CAP CER 680PF 16V X5R 0603/0805; Tolerance: 10%; Package: 0603/0805; Temperature Coefficient: X5R; Operating Temperature: -55°C ~ 85°C; Value: 680pF
footprint 0603
footprint 0805
pins: 1 C1, 2 C2

## CAP 680pF 50V
designator C?, comment Rating: 50V  (hidden comment: 680pF)
CAP CER 680PF 50V X7R 0603/0805; Tolerance: 10%; Package: 0603/0805; Temperature Coefficient: X7R; Operating Temperature: -55°C ~ 125°C; Value: 680pF
footprint 0603
footprint 0805
pins: 1 C1, 2 C2

## CAP 820pF 50V
designator C?, comment Rating: 50V  (hidden comment: 820pF)
CAP CER 820PF 50V X7R 0603/0805; Tolerance: 10%; Package: 0603/0805; Temperature Coefficient: X7R; Operating Temperature: -55°C ~ 125°C; Value: 820pF
footprint 0603
footprint 0805
pins: 1 C1, 2 C2

## CAP 1000pF 16V
designator C?, comment Rating: 16V  (hidden comment: 1000pF)
CAP CER 1000PF 16V X5R 0603/0805; Tolerance: 10%; Package: 0603/0805; Temperature Coefficient: X5R; Operating Temperature: -55°C ~ 85°C; Value: 1000pF
footprint 0603
footprint 0805
pins: 1 C1, 2 C2

## CAP 1000pF 50V
designator C?, comment Rating: 50V  (hidden comment: 1000pF)
CAP CER 1000PF 50V X7R 0603/0805; Tolerance: 10%; Package: 0603/0805; Temperature Coefficient: X7R; Operating Temperature: -55°C ~ 125°C; Value: 1000pF
footprint 0603
footprint 0805
pins: 1 C1, 2 C2

## CAP 1500pF 25V
designator C?, comment Rating: 25V  (hidden comment: 1.5nF)
CAP CER 1500pF 25V X7R 0603; Tolerance: 1%; Package: 0603; Temperature Coefficient: X7R; Operating Temperature: -55C - +125C; Value: 1.5nF
footprint 0603
pins: 1 C1, 2 C2

## CAP 1600pF 50V
designator C?, comment Rating: 50V  (hidden comment: 1600pF)
CAP CER 1600pF 50V NP0 0603; Tolerance: 5%; Package: 0603; Temperature Coefficient: NP0; Operating Temperature: -55C - +125C; Value: 1600pF
footprint 0603
pins: 1 C1, 2 C2

## CAP 1800pF 50V
designator C?, comment Rating: 50V  (hidden comment: 1.8nF)
CAP CER 1800pF 50V X7R 0603; Tolerance: 10%; Package: 0603; Temperature Coefficient: X7R; Operating Temperature: -55C - +125C; Value: 1.8nF
footprint 0603
pins: 1 C1, 2 C2

## CAP 2200pF 16V
designator C?, comment Rating: 16V  (hidden comment: 2200pF)
CAP CER 2200PF 16V X5R 0603/0805; Tolerance: 10%; Package: 0603/0805; Temperature Coefficient: X5R; Operating Temperature: -55°C ~ 85°C; Value: 2200pF
footprint 0603
footprint 0805
pins: 1 C1, 2 C2

## CAP 2200pF 50V
designator C?, comment Rating: 50V  (hidden comment: 2200pF)
CAP CER 2200PF 50V X7R 0603/0805; Tolerance: 10%; Package: 0603/0805; Temperature Coefficient: X7R; Operating Temperature: -55°C ~ 125°C; Value: 2200pF
footprint 0603
footprint 0805
pins: 1 C1, 2 C2

## CAP 2700pF 50V
designator C?, comment 2700pF 50V
CAP CER 2700PF 50V X7R 0805; Tolerance: 10%; Package: 0805; Value: 2700pF; Rating: 50V; Temperature Coefficient: X7R; Operating Temperature: -55°C ~ 125°C
footprint 0805
pins: 1 C1, 2 C2

## CAP 3300pF 16V
designator C?, comment Rating: 16V  (hidden comment: 3300pF)
CAP CER 3300PF 16V X5R 0603/0805; Tolerance: 10%; Package: 0603/0805; Temperature Coefficient: X5R; Operating Temperature: -55°C ~ 85°C; Value: 3300pF
footprint 0603
footprint 0805
pins: 1 C1, 2 C2

## CAP 3300pF 50V
designator C?, comment Rating: 50V  (hidden comment: 3300pF)
CAP CER 3300PF 50V X7R 0603/0805; Tolerance: 10%; Package: 0603/0805; Temperature Coefficient: X7R; Operating Temperature: -55°C ~ 125°C; Value: 3300pF
footprint 0603
footprint 0805
pins: 1 C1, 2 C2

## CAP 4700pF 16V
designator C?, comment Rating: 16V  (hidden comment: 4700pF)
CAP CER 4700PF 16V X5R 0603/0805; Tolerance: 10%; Package: 0603/0805; Temperature Coefficient: X5R; Operating Temperature: -55°C ~ 85°C; Value: 4700pF
footprint 0603
footprint 0805
pins: 1 C1, 2 C2

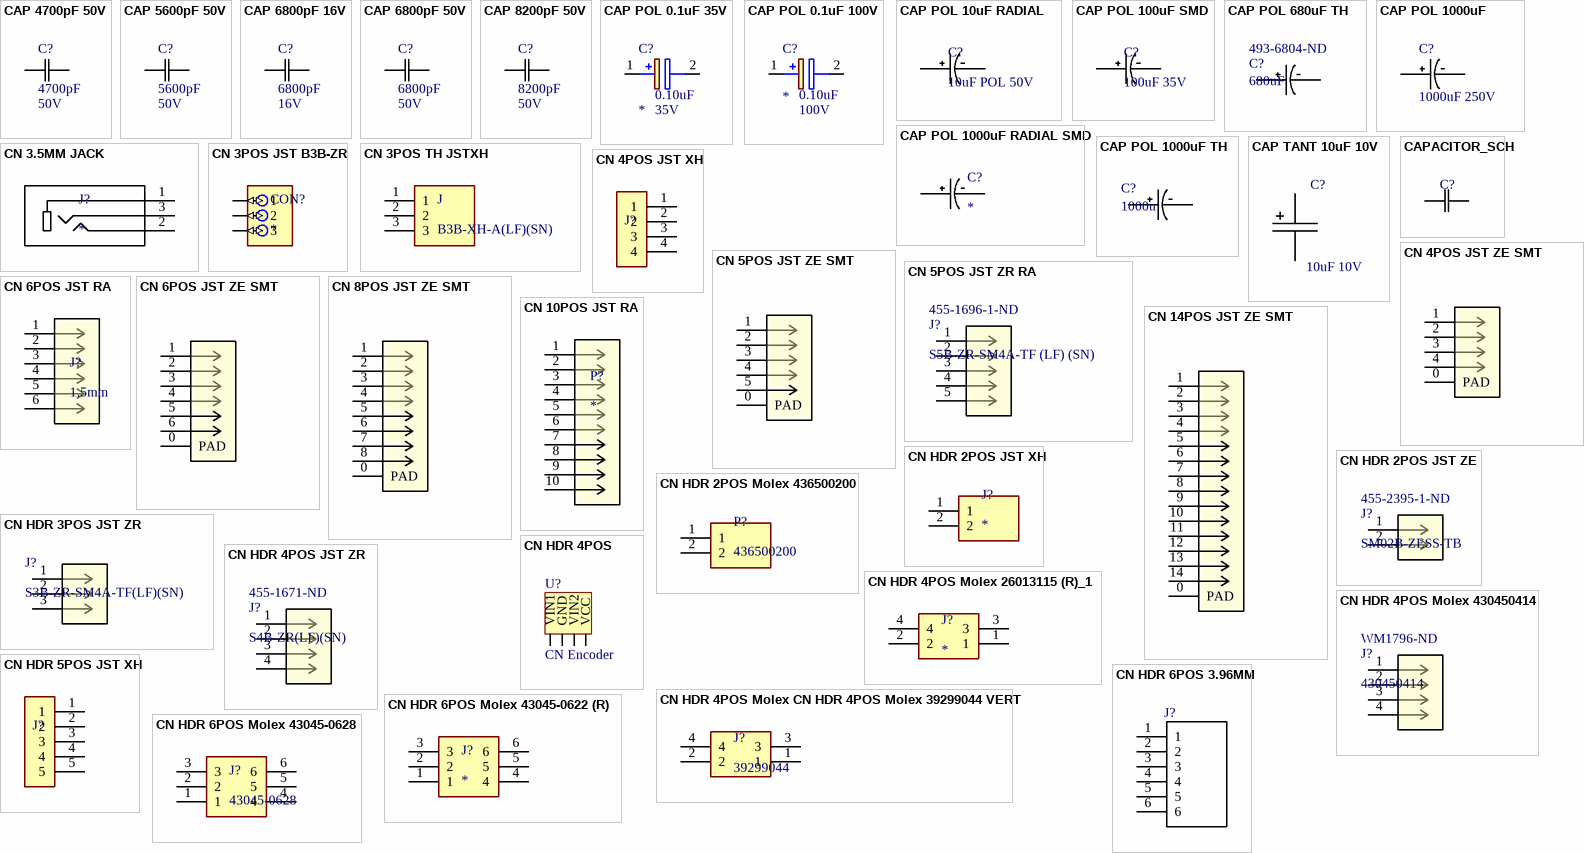
[diagram p3: symbols CAP 4700pF 50V to CN HDR 6POS Molex 43045-0628]

## CAP 4700pF 50V
designator C?, comment Rating: 50V  (hidden comment: 4700pF)
CAP CER 4700PF 50V X7R 0603/0805; Tolerance: 10%; Package: 0603/0805; Temperature Coefficient: X7R; Operating Temperature: -55°C ~ 125°C; Value: 4700pF
footprint 0603
footprint 0805
pins: 1 C1, 2 C2

## CAP 5600pF 50V
designator C?, comment Rating: 50V  (hidden comment: 5600pF)
CAP CER 5600PF 50V X7R 0603/0805; Tolerance: 10%; Package: 0603/0805; Temperature Coefficient: X7R; Operating Temperature: -55°C ~ 125°C; Value: 5600pF
footprint 0603
footprint 0805
pins: 1 C1, 2 C2

## CAP 6800pF 16V
designator C?, comment Rating: 16V  (hidden comment: 6800pF)
CAP CER 6800PF 16V X5R 0603/0805; Tolerance: 10%; Package: 0603/0805; Temperature Coefficient: X5R; Operating Temperature: -55°C ~ 85°C; Value: 6800pF
footprint 0603
footprint 0805
pins: 1 C1, 2 C2

## CAP 6800pF 50V
designator C?, comment Rating: 50V  (hidden comment: 6800pF)
CAP CER 6800PF 50V X7R 0603/0805; Tolerance: 10%; Package: 0603/0805; Temperature Coefficient: X7R; Operating Temperature: -55°C ~ 125°C; Value: 6800pF
footprint 0603
footprint 0805
pins: 1 C1, 2 C2

## CAP 8200pF 50V
designator C?, comment Rating: 50V  (hidden comment: 8200pF)
CAP CER 8200PF 50V X7R 0603/0805; Tolerance: 10%; Package: 0603/0805; Temperature Coefficient: X7R; Operating Temperature: -55°C ~ 125°C; Value: 8200pF
footprint 0603
footprint 0805
pins: 1 C1, 2 C2

## CAP POL 0.1uF 35V
designator C?  value 0.10uF  Rating: 35V
0.1µF 35V Aluminum Electrolytic Capacitors Radial, Can - SMD  7000 Hrs @ 105°C; Manufacturer_Name: Nichicon; Manufacturer_Part_Number: UCB1V0R1MCL1GS; Datasheet Link: http://www.nichicon.co.jp/english/products/pdfs/e-ucb.pdf; Height: 7.3mm; Mouser Part Number: 647-UCB1V0R1MCL1GS; Mouser Price/Stock: https://www.mouser.co.uk/ProductDetail/Nichicon/UCB1V0R1MCL1GS/?qs=Wu4QelNNmeOHrkSeva4QtA%3D%3D; Supplier 1: Digi-Key; Supplier Part Number 1: 493-9956-1-ND
footprint CAPAE430X730N
pins: 1 +, 2 -

## CAP POL 0.1uF 100V
designator C?  value 0.10uF  Rating: 100V
0.1µF 100V Aluminum Electrolytic Capacitors, Through-Hole, Radial, Can 2000 Hrs @ 85°C; Manufacturer_Name: Nichicon; Manufacturer_Part_Number: UKL2A0R1KDD; Datasheet Link: http://www.mouser.com/ds/2/293/e-ukl-876305.pdf; Height: 12.5mm; Mouser Part Number: 647-UKL2A0R1KDD; Mouser Price/Stock: https://www.mouser.com/Search/Refine.aspx?Keyword=647-UKL2A0R1KDD; Supplier 1: Digi-Key; Supplier Part Number 1: 493-16876-ND
footprint CAPPRD200W50D525H1250
pins: 1 +, 2 -

## CAP POL 10uF RADIAL
designator C?, comment 10uF POL 50V
CAP ALUM 10UF 50V RADIAL; Tolerance: 20%; Temperature Coefficient: Unspecified; ComponentLink1Description: Digikey Link; ComponentLink1URL: https://www.digikey.ca/product-detail/en/panasonic-electronic-components/ECA-1HM100I/P10425CT-ND/8603345; Package: RADIAL; Value: 10uF; Rating: 50V; Operating Temperature: -40°C ~ 85°C; Dimensions: 0.197" Dia (5.00mm)
footprint RADIAL - THRU 5mm (Through Hole)
pins: NEG, POS

## CAP POL 100uF SMD
designator C?, comment 100uF 35V
CAP ALUM 100UF 35V SMD; Value: 10uF; Tolerance: 20%; Rating: 50V; Temperature Coefficient: Unspecified; ComponentLink1Description: Digikey Link; ComponentLink1URL: https://www.digikey.ca/product-detail/en/panasonic-electronic-components/ECA-1HM100I/P10425CT-ND/8603345; Package: RADIAL; Operating Temperature: -40°C ~ 85°C; Dimensions: 0.197" Dia (5.00mm)
footprint CAP POL ALU 6.3x5.8
pins: NEG, POS

## CAP POL 680uF TH
designator C?, comment 680uF  Supplier Part Number 1: 493-6804-ND
NICHICON   UHW1V681MPD6 ALUMINUM ELECTROLYTIC CAPACITOR, 680UF, 35V, 20%, RADIAL, FULL REEL; Dielectric Material: Aluminium; Manufacturer: Nichicon; Manufacturer Part Number: UHW1V681MPD6; RoHS: Yes; Case/Package: Radial; Number of Pins: 2; Capacitance: 680uF; Tolerance: 20%; Termination: Radial; Voltage: 35V; Supplier 1: Digi-Key
footprint RADIAL, CAN - THRU 10mm
footprint RADIAL, CAN - THRU 10mm - RIGHTANGLE
pins: NEG, POS

## CAP POL 1000uF
designator C?, comment 1000uF 250V
United Chemi-Con / ESMQ251VSN102MQ45S; Dielectric Material: Aluminium; Life (Hours): 2000Hour; Capacitance: 1mF; Tolerance: 20%; Ripple Current: 960mA; Lead Diameter: 2mm; Supplier 1: Digi-Key; Manufacturer: United Chemi-Con; Manufacturer Part Number: ESMQ251VSN102MQ45S; RoHS: Yes; Mount: Through Hole,PCB; Case/Package: Radial; Number of Pins: 2; Min Operating Temperature: -40°C; Max Operating Temperature: 85°C; Termination: Radial; Voltage: 250V; Diameter: 25.4mm; Height - Seated (Max): 45mm; Lead Pitch: 10mm; REACH SVHC: No SVHC; Lead Free: Lead Free; Supplier Part Number 1: 565-2754-ND
footprint RADIAL, CAN - THRU 25.4mm
pins: NEG, POS

## CAP POL 1000uF RADIAL SMD
designator C?
1000µF 25V Aluminum Electrolytic Capacitors Radial, Can - SMD 5000 Hrs @ 105Â°C; MF: Panasonic; MP: EEV-FK1E102Q; Package: Radial Panasonic; Value: *; Price: None; Availability: Unavailable; SnapEDA_Link: https://www.snapeda.com/parts/EEV-FK1E102Q/Panasonic%20Electronic%20Components/view-part/492355/?ref=snap; ComponentLink1Description: Digi-Key; ComponentLink1URL: https://www.digikey.ca/en/products/detail/panasonic-electronic-components/EEV-FK1E102Q/396274?s=N4IgTCBcDaIKJwGoFoBiBpAjHTAGMAiiALoC%2BQA; ComponentLink2Description: ciiva; ComponentLink2URL: https://ciiva.com/part/250usg1000mefcsn25x45-4128165
footprint Radial, Can - SMD
pins: NEG, POS

## CAP POL 1000uF TH
designator C?, comment 1000u
NICHICON   UVR1E102MPD1TD   ALUMINUM ELECTROLYTIC CAPACITOR, 1000UF, 25V, 20%, RADIAL, FULL REEL; Dielectric Material: Aluminium; Life (Hours): 2000Hour; Capacitance: 1mF; Leakage Current: 750uA; Dissipation Factor: 0.16%; Ripple Current: 960mA; Lead Diameter: 0.6mm; Supplier 1: Digi-Key; Manufacturer: Nichicon; Manufacturer Part Number: UVR1E102MPD1TD; RoHS: Yes; Category: Aluminum Electrolytic Capacitors; Stock 1: 43448; Pricing 1: 1=0.58000, 10=0.40800, 100=0.26890 (USD); Mount: Through Hole,PCB; Case/Package: Radial; Number of Pins: 2; Min Operating Temperature: -40°C; Max Operating Temperature: 85°C; Packaging: Tape and Reel; Tolerance: 20%; Voltage Rating (DC): 25V; Voltage Rating: 25V; Termination: Radial; Voltage: 25V; Package Quantity: 500; Diameter: 10mm; Length: 20mm; Height: 20mm; Height - Seated (Max): 0.866inch; Lead Pitch: 5mm; Radiation Hardening: No; REACH SVHC: No SVHC; Lead Free: Lead Free; ComponentLink1URL: https://datasheet.ciiva.com/7851/e-vr-7851718.pdf?src-supplier=Element14; ComponentLink1Description: https://datasheet.ciiva.com/7851/e-vr-7851718.pdf?src-supplier=Element14; ComponentLink2URL: https://datasheet.ciiva.com/6300/e-vr-6300009.pdf?src-supplier=Digi-Key; ComponentLink2Description: https://datasheet.ciiva.com/6300/e-vr-6300009.pdf?src-supplier=Digi-Key; ComponentLink3URL: https://datasheet.ciiva.com/6300/e-vr-6300010.pdf?src-supplier=Digi-Key; ComponentLink3Description: https://datasheet.ciiva.com/6300/e-vr-6300010.pdf?src-supplier=Digi-Key; ComponentLink4URL: https://datasheet.ciiva.com/11684/e-vr-11684106.pdf?src-supplier=Avnet; ComponentLink4Description: https://datasheet.ciiva.com/11684/e-vr-11684106.pdf?src-supplier=Avnet; ComponentLink5URL: https://datasheet.ciiva.com/16502/e-vr-16502813.pdf?src-supplier=Future+Electronics; ComponentLink5Description: https://datasheet.ciiva.com/16502/e-vr-16502813.pdf?src-supplier=Future+Electronics; ComponentLink6URL: https://datasheet.ciiva.com/46381/1909356-46381757.pdf?src-supplier=Element14; ComponentLink6Description: https://datasheet.ciiva.com/46381/1909356-46381757.pdf?src-supplier=Element14; Supplier Part Number 1: 493-5913-1-ND
footprint RADIAL - THRU 5mm (Through Hole)
pins: NEG, POS

## CAP TANT 10uF 10V
designator C?, comment 10uF 10V
CAP TANT 10UF 10V 1206; Tolerance: 10%; ESR (Equivalent Series Resistance): 3.8 Ohm; Type: Molded Tantalum; Package: 1206; Value: 10uF; Rating: 10V; Operating Temperature: -55°C ~ 125°C
footprint 1206 Polarized
pins: 1 P$1, 2 P$2

## CAPACITOR_SCH
designator C?
pins: 1 C1, 2 C2

## CN 3.5MM JACK
designator J?
CN JACK STEREO 3.5MM R/A; MF: CUI Devices; MP: SJ1-3523N; Digikey: CP1-3523N-ND; Digikey Link: https://www.digikey.ca/product-detail/en/cui-devices/SJ1-3523N/CP1-3523N-ND/738689; Supplier 1: Digi-Key; Supplier Part Number 1: CP1-3523N-ND
footprint CONN JACK STEREO 3.5MM R/A
pins: 1, 2, 3

## CN 3POS JST B3B-ZR
designator CON?
Connector Header Through Hole 3 position 0.059 (1.50mm); MP: B3B-ZR; MF: JST Sales; Price: $0.18; Package: Bulk; Check_prices: https://www.snapeda.com/parts/B3B-ZR/JST%20Sales%20America%20Inc./view-part/496625/?ref=eda; SnapEDA_Link: https://www.snapeda.com/parts/B3B-ZR/JST%20Sales%20America%20Inc./view-part/496625/?ref=snap; Value: *; Availability: Active; ComponentLink1Description: Digikey Link; ComponentLink1URL: https://www.digikey.com/en/products/detail/jst-sales-america-inc/B3B-ZR(LF)(SN)/926565?utm_source=snapeda&utm_medium=aggregator&utm_campaign=buynow; Digikey: 455-1658-ND
footprint CN 3POS JST B3B-ZR
pins: 1 (io), 2 (io), 3 (io)

## CN 3POS TH JSTXH
designator J, comment B3B-XH-A(LF)(SN)
CN 3POS TH JST XH; MF: JST Sales; Package: None; SnapEDA_Link: https://www.snapeda.com/parts/B3B-XH-A(LF)(SN)/JST%20Sales%20America%20Inc./view-part/231271/?ref=snap; DigiKey-Purchase-URL: https://snapeda.com/shop?store=DigiKey&id=231271; MP: B3B-XH-A(LF)(SN); Price: None; Availability: Warning; Value: *
footprint JST_B3B-XH-A(LF)(SN)
pins: 1, 2, 3

## CN 4POS JST XH
designator J?
Connector Header Through Hole 4 position 0.098 _2.50mm_ / B4B-XH-A(LF)(SN); MP: B4B-XH-A_LF__SN_; MF: JST Sales; Price: None; Package: None; Value: *; Availability: Unavailable; SnapEDA_Link: https://www.snapeda.com/parts/B4B-XH-A%28LF%29%28SN%29/JST%20Sales%20America%20Inc./view-part/447494/?ref=snap
footprint JST_B4B-XH-A(LF)(SN)
pins: 1, 2, 3, 4

## CN 4POS JST ZE SMT
designator J?, comment BM04B-ZESS-TBT(LF)(SN)
Connector Header, ZE Series, 4 Positon, 1.5mm, Shrouded - 4 Wall, Solder, Locking Ramp, Natural; Manufacturer: JST; Number of Positions: 4; Current Rating: 2A; Voltage Rating: 100V; Connector Type: Outer Shroud Contact; Pitch: 0.059inch; Supplier 1: Digi-Key; Manufacturer Part Number: BM04B-ZESS-TBT(LF)(SN); RoHS: Yes; Category: Connectors; Stock 1: 2574; Pricing 1: 1=0.74000, 10=0.64700, 100=0.53360 (USD); Mount: Surface Mount; Color: Natural; Contact Material: Copper Alloy; Contact Plating: Tin; Package Quantity: 800; Number of Rows: 1; Packaging: Tape and Reel; Termination: Solder; Fastening Type: Ramp; Number of Contacts: 4; Orientation: Straight; Series: ZE; Contact Type: Outer Shroud Contact; Lead Free: Lead Free; ComponentLink1URL: https://datasheet.ciiva.com/729/bm2-6b-zexxs-tbtlfsn-729254.pdf?src-supplier=Digi-Key; ComponentLink1Description: https://datasheet.ciiva.com/729/bm2-6b-zexxs-tbtlfsn-729254.pdf?src-supplier=Digi-Key; ComponentLink2URL: https://datasheet.ciiva.com/729/bm2-6b-zexxs-tbtlfsn-729284.pdf?src-supplier=Digi-Key; ComponentLink2Description: https://datasheet.ciiva.com/729/bm2-6b-zexxs-tbtlfsn-729284.pdf?src-supplier=Digi-Key; Supplier Part Number 1: 455-2382-1-ND
footprint JST ZE SMT 4POS (4 POS HDR JST ZE)
pins: 0 PAD, 1, 2, 3, 4

## CN 5POS JST ZE SMT
designator J?, comment BM05B-ZESS-TBT(LF)(SN)
CONN HEADER VERT SMD 5POS ZE; Supplier 1: Digi-Key; Supplier Part Number 1: 455-2383-1-ND
footprint JST ZE SMT 5POS (5 POS HDR JST ZE)
pins: 0 PAD, 1, 2, 3, 4, 5

## CN 5POS JST ZR RA
designator J?, comment S5B-ZR-SM4A-TF (LF) (SN)  Supplier Part Number 1: 455-1696-1-ND
Connector Header Surface Mount, Right Angle 5 position 0.059" (1.50mm); Mfr_Name: JST; Copyright: Copyright (C) 2021 Ultra Librarian. All rights reserved.; Manufacturer_Part_Number: S5B-ZR-SM4A-TF (LF) (SN); Digi-Key_Part_Number_1: 455-1696-2-ND; Digi-Key_Part_Number_2: 455-1696-1-ND; Digi-Key_Part_Number_3: 455-1696-6-ND; RefDes: RefDes; Type: DEV; Supplier 1: Digi-Key
footprint CONN_S5B-ZR-SM4A-TF_JST
pins: 1, 2, 3, 4, 5

## CN 6POS JST RA
designator J?, comment 1.5mm
Conn Shrouded Header HDR 6 POS 1.5mm Solder RA Thru-Hole Box; Manufacturer: JST; Manufacturer Part Number: S6B-ZR(LF)(SN); Body Plating: Tin; Number of Positions: 6; Current Rating: 1A; Connector Type: Header,Male Pin; Contact Resistance: 30mR; Voltage Rating: 50V; Gender: Male; Insulation Resistance: 500MR; Panel Thickness: 3.5mm; Supplier 1: Digi-Key; RoHS: Yes; Category: Headers and Wire Housings; Stock 1: 14808; Mount: Through Hole; Number of Pins: 6; Color: White; Contact Plating: Tin,Copper; Contact Material: Brass,Tin,Copper; Housing Color: Beige; Housing Material: Polyamide; Material: Nylon; Contact Shape: Circular; Insulation Material: Nylon; Insulation Color: Natural; Min Operating Temperature: -25°C; Max Operating Temperature: 85°C; Number of Rows: 1; Packaging: Bulk; Termination: Solder; Fastening Type: Detent; Number of Contacts: 6; Max Voltage Rating (AC): 50V; Max Current Rating: 1A; Orientation: Right Angle; Voltage Rating (AC): 50V; Voltage Rating (DC): 50V; Length: 10.5mm; Width: 3.5mm; Height: 7.2mm; Pitch: 1.5mm; Depth: 6mm; Lead Pitch: 1.5mm; Contact Mating Length: 0.094inch; Lead Free: Lead Free; Flammability Rating: UL94 V-0; REACH SVHC: No SVHC; ComponentLink1URL: https://datasheet.ciiva.com/8052/80556-8052225.pdf?src-supplier=Element14; ComponentLink1Description: https://datasheet.ciiva.com/8052/80556-8052225.pdf?src-supplier=Element14; ComponentLink2URL: https://datasheet.ciiva.com/25617/0900766b81147f94-25617345.pdf?src-supplier=RSComponents; ComponentLink2Description: https://datasheet.ciiva.com/25617/0900766b81147f94-25617345.pdf?src-supplier=RSComponents; ComponentLink3URL: https://datasheet.ciiva.com/11752/0900766b8082f593-11752194.pdf?src-supplier=RSComponents; ComponentLink3Description: https://datasheet.ciiva.com/11752/0900766b8082f593-11752194.pdf?src-supplier=RSComponents; ComponentLink4URL: https://datasheet.ciiva.com/26894/getdatasheetpartid-642095-26894637.pdf?src-supplier=Verical; ComponentLink4Description: https://datasheet.ciiva.com/26894/getdatasheetpartid-642095-26894637.pdf?src-supplier=Verical; ComponentLink5URL: https://datasheet.ciiva.com/712/ezh-712560.pdf?src-supplier=Digi-Key; ComponentLink5Description: https://datasheet.ciiva.com/712/ezh-712560.pdf?src-supplier=Digi-Key; ComponentLink6URL: https://datasheet.ciiva.com/16484/s6b-zrlfsn-16484554.pdf?src-supplier=Future+Electronics; ComponentLink6Description: https://datasheet.ciiva.com/16484/s6b-zrlfsn-16484554.pdf?src-supplier=Future+Electronics; Supplier Part Number 1: 455-1673-ND
footprint 6POS JST
footprint 6POS JST Vertical
pins: 1, 2, 3, 4, 5, 6

## CN 6POS JST ZE SMT
designator J?, comment BM06B-ZESS-TBT(LF)(SN)
CONN HEADER VERT SMD 6POS ZE; Supplier 1: Digi-Key; Supplier Part Number 1: 455-2384-1-ND
footprint JST ZE SMT 6POS (6 POS HDR JST ZE)
pins: 0 PAD, 1, 2, 3, 4, 5, 6